# Altium schematic symbol library Components.SchLib: 14 symbols
Pins are listed as number, name and electrical type; pins without a type are passive.

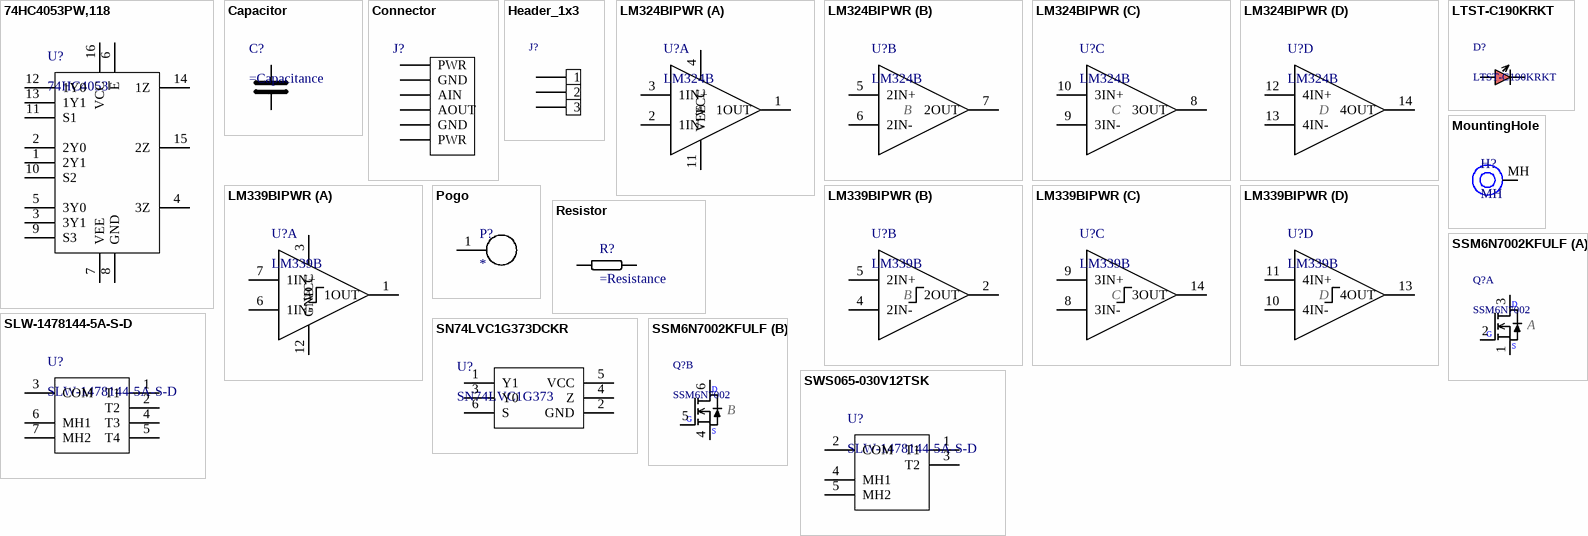
[diagram p0: symbols 74HC4053PW,118 to SWS065-030V12TSK]

## 74HC4053PW,118
designator U?, comment 74HC4053
Supplier: Mouser; Supplier Part Number: 771-74HC4053PW-T
footprint TSSOP_16P
pins: 1 2Y1, 2 2Y0, 3 3Y1, 4 3Z, 5 3Y0, 6 ~{E}, 7 VEE, 8 GND, 9 S3, 10 S2, 11 S1, 12 1Y0, 13 1Y1, 14 1Z, 15 2Z, 16 VCC

## Capacitor
designator C?
footprint CAP0603 (Chip Capacitor, 2-Leads, Body 1,60x0,80mm, IPC Medium Density)
pins: 1, 2

## Connector
designator J?
footprint CONNECTOR
pins: 1 PWR, 2 GND, 3 AIN, 4 AOUT, 5 GND, 6 PWR

## Header_1x3
designator J?
footprint HEADER_254_1X3_TH_V
pins: 1, 2, 3

## LM324BIPWR
designator U?, comment LM324B
Supplier: Mouser; Supplier Part Number: 595-LM324BIPWR
footprint TSSOP_14P
part A pins: 1 1OUT, 2 1IN-, 3 1IN+, 4 VCC, 11 VEE
part B pins: 5 2IN+, 6 2IN-, 7 2OUT
part C pins: 8 3OUT, 9 3IN-, 10 3IN+
part D pins: 12 4IN+, 13 4IN-, 14 4OUT
part A text: A
part B text: B
part C text: C
part D text: D

## LM339BIPWR
designator U?, comment LM339B
Supplier: Mouser; Supplier Part Number: 595-LM339BIPWR
footprint TSSOP_16P
part A pins: 1 1OUT, 3 VCC, 6 1IN-, 7 1IN+, 12 GND
part B pins: 2 2OUT, 4 2IN-, 5 2IN+
part C pins: 8 3IN-, 9 3IN+, 14 3OUT
part D pins: 10 4IN-, 11 4IN+, 13 4OUT
part A text: A
part B text: B
part C text: C
part D text: D

## LTST-C190KRKT
designator D?
Supplier: Mouser; Supplier Part Number: 859-LTST-C190KRKT
footprint LED0603
pins: A, C

## MountingHole
designator H?, comment MH
footprint MOUNTING_HOLE_M3 (Mounting hole for M3 screws.)
footprint MOUNTING_HOLE_M2.5 (Mounting hole for M2.5 screws.)
pins: MH

## Pogo
designator P?
footprint POGO
pins: 1

## Resistor
designator R?
footprint RES0603 (Chip Resistor, 2-Leads, Body 1,55x0,85mm, IPC Medium Density)
pins: 1, 2

## SLW-1478144-5A-S-D
designator U?
Supplier: Mouser; Supplier Part Number: 179-SLW14781445ASD
footprint SLW14781445ASD
pins: 1 T1, 2 T2, 3 COM, 4 T3, 5 T4, 6 MH1, 7 MH2

## SN74LVC1G373DCKR
designator U?, comment SN74LVC1G373
Supplier: Mouser; Supplier Part Number: 595-SN74LVC1G373DCKR
footprint SOT-363-6 (Small Outline Transistor (SOT23), 0.65 mm pitch; 6 pin, 2.00 mm L X 1.25 mm W X 1.10 mm H body)
pins: 1 Y1, 2 GND, 3 Y0, 4 Z, 5 VCC, 6 S

## SSM6N7002KFULF
designator Q?, comment SSM6N7002
Supplier: Mouser; Supplier Part Number: 757-SSM6N7002KFULF
footprint SOT-363-6 (Small Outline Transistor (SOT23), 0.65 mm pitch; 6 pin, 2.00 mm L X 1.25 mm W X 1.10 mm H body)
part A pins: 1 S, 2 G, 3 D
part B pins: 4 S, 5 G, 6 D
part A text: A
part B text: B

## SWS065-030V12TSK
designator U?, comment SLW-1478144-5A-S-D
Supplier: Mouser; Supplier Part Number: 179-SLW14781445ASD
footprint SWS065-030V12TSK
pins: 1 T1, 2 COM, 3 T2, 4 MH1, 5 MH2